# EAGLE library part HDR-1X6-OFFSET (library RS-extra-cons)
42 mil hole pattern with 16mil offset for jtag connector
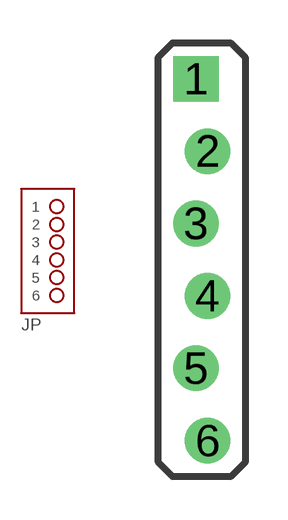
[diagram p15: symbol with the pads of HDR-1X6_OFFSET; footprint HDR-1X6_OFFSET]

Designator prefix JP

## HDR-1X6-OFFSET  [HDR-1X6_OFFSET]
1  1  pas
2  2  pas
3  3  pas
4  4  pas
5  5  pas
6  6  pas

## Footprint HDR-1X6_OFFSET (pad centres in mm)
1x6 Header with 42 mil holes offset by 16 mils
drill 1.067 square: 1 -0.203,6.35
drill 1.067: 2 0.203,3.81; 3 -0.203,1.27; 4 0.203,-1.27; 5 -0.203,-3.81; 6 0.203,-6.35